# EAGLE library part KSZ8081RNDCA-TR (library KSZ8081RNDCA-TR)
Ethernet ICs 10/100 BASE-TX Physical Layer Transceiver Source: Datasheet <https://datasheet.datasheetarchive.com/originals/dk/DKDS-15/281122.pdf>
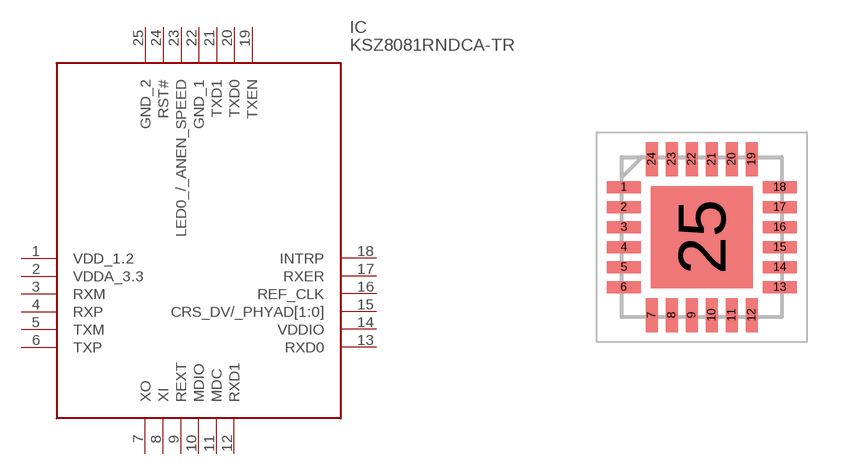
[diagram p0: symbol with the pads of QFN50P400X400X90-25N; footprint QFN50P400X400X90-25N]

Designator prefix IC

## KSZ8081RNDCA-TR (Description: Ethernet ICs 10/100 BASE-TX Physical Layer Transceiver; Height: 0.9mm; Manufacturer_Name: Microchip; Manufacturer_Part_Number: KSZ8081RNDCA-TR; Mouser_Part_Number: 998-KSZ8081RNDCATR; Mouser_Price-Stock: https://www.mouser.co.uk/ProductDetail/Microchip-Technology-Atmel/KSZ8081RNDCA-TR?qs=U6T8BxXiZAXLXXdn%2FieQKw%3D%3D)  [QFN50P400X400X90-25N]
1  VDD_1.2
2  VDDA_3.3
3  RXM
4  RXP
5  TXM
6  TXP
7  XO
8  XI
9  REXT
10  MDIO
11  MDC
12  RXD1
13  RXD0
14  VDDIO
15  CRS_DV/_PHYAD[1:0]
16  REF_CLK
17  RXER
18  INTRP
19  TXEN
20  TXD0
21  TXD1
22  GND_1
23  LED0_/_ANEN_SPEED
24  RST#
25  GND_2

## Footprint QFN50P400X400X90-25N (pad centres in mm)
KSZ8081RNAIA-TR-1
smd 0.85 x 0.3: 1 -1.95,1.25; 2 -1.95,0.75; 3 -1.95,0.25; 4 -1.95,-0.25; 5 -1.95,-0.75; 6 -1.95,-1.25; 13 1.95,-1.25; 14 1.95,-0.75; 15 1.95,-0.25; 16 1.95,0.25; 17 1.95,0.75; 18 1.95,1.25
smd 0.3 x 0.85: 7 -1.25,-1.95; 8 -0.75,-1.95; 9 -0.25,-1.95; 10 0.25,-1.95; 11 0.75,-1.95; 12 1.25,-1.95; 19 1.25,1.95; 20 0.75,1.95; 21 0.25,1.95; 22 -0.25,1.95; 23 -0.75,1.95; 24 -1.25,1.95
smd 2.55 x 2.55: 25 0,0